# Altium schematic symbol library DC-DC.SchLib: 1 symbol
Pins are listed as number, name and electrical type; pins without a type are passive.

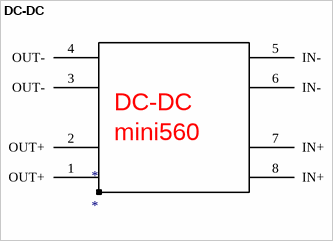
[diagram p0: symbol DC-DC]

## DC-DC
designator *
footprint mini560
pins: 1 OUT+, 2 OUT+ "OUT-", 3 OUT-, 4 OUT-, 5 IN-, 6 IN-, 7 IN+, 8 IN+
text: mini560